# Altium footprint library BMS.PcbLib: 17 footprints (part 1 of 2)
Each footprint in its own frame and in the unit in brackets; x right, y up, seen from the top. Pads: shape width x height; smd on the part's side, far side on the other; paste and mask are expansions set on the pad; w line width, h text height; cw(c..) or ccw(c..) is an arc to the next point about the centre after c.
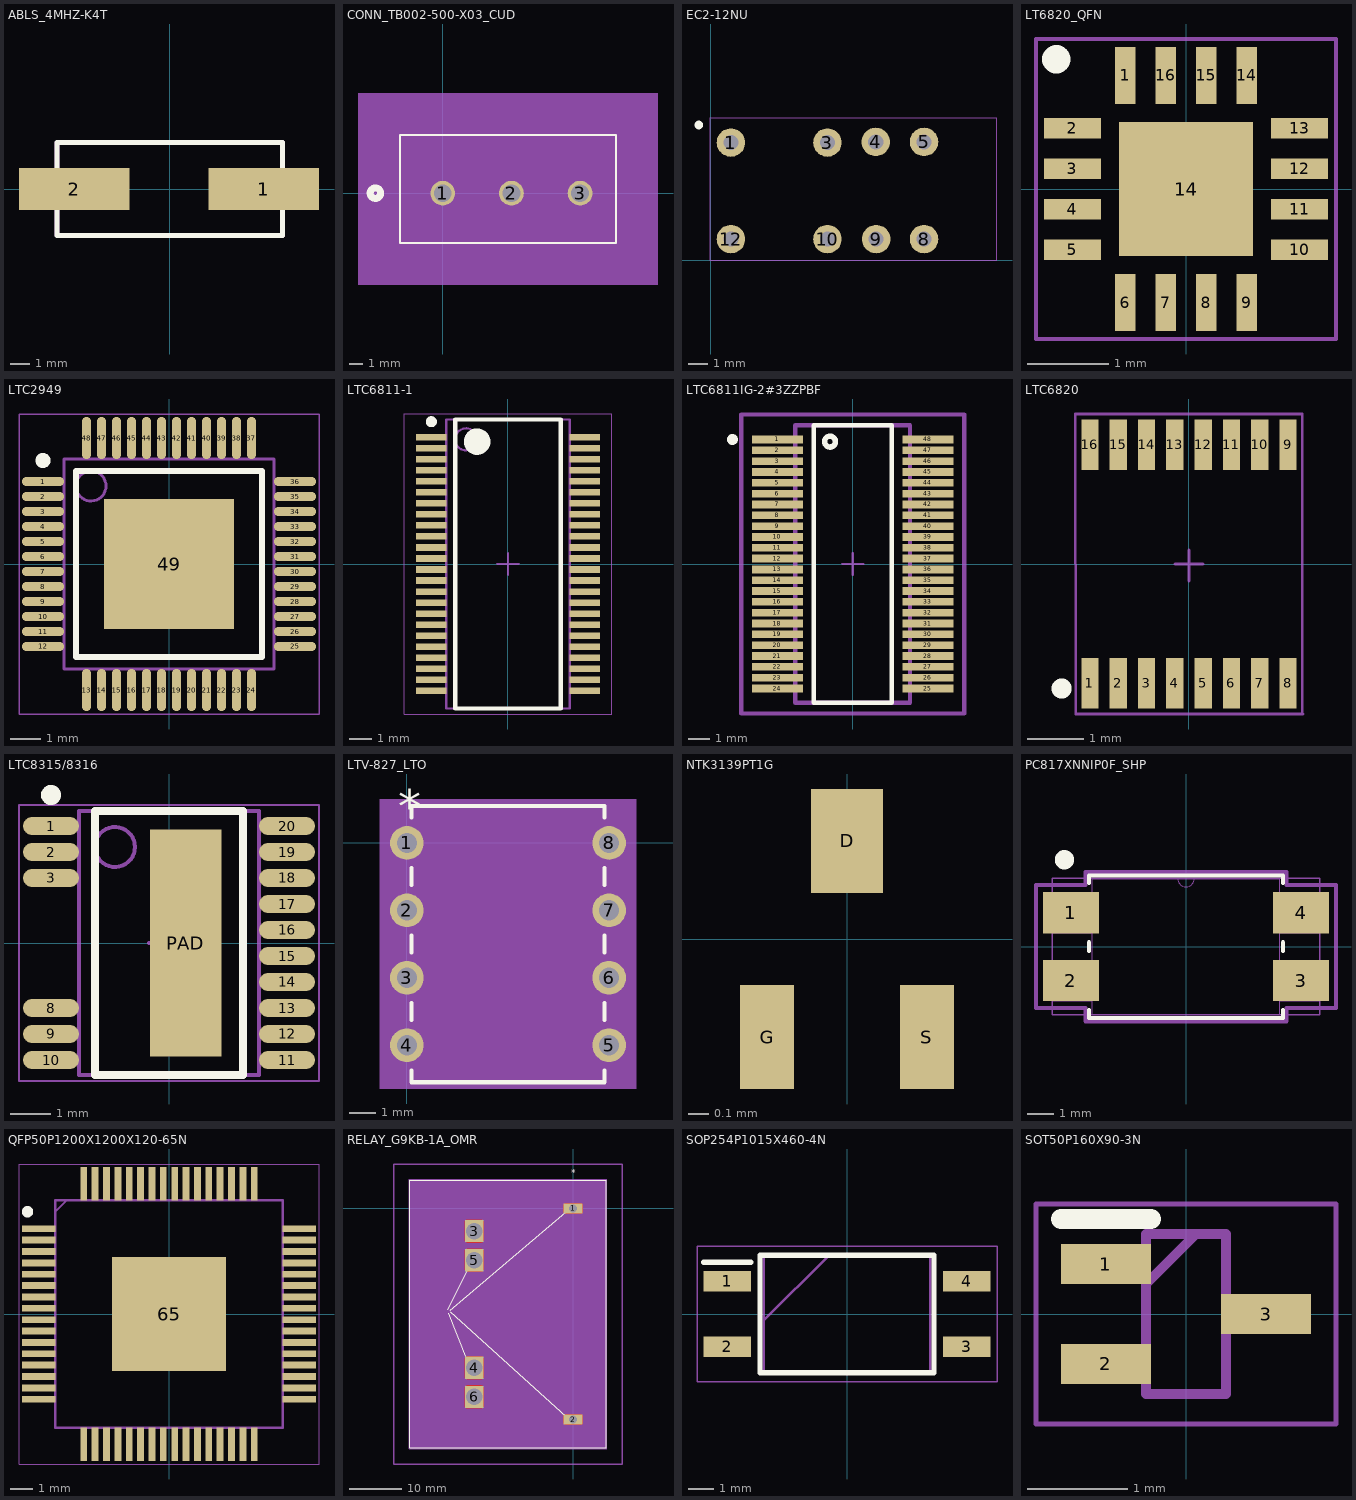
[diagram p0: the footprints below, top view; thin cyan lines are the x and y axes]

## ABLS_4MHZ-K4T [mm]
pads (2):
  rect 5.6x2.1 smd: 1(4.75,0) 2(-4.826,0)
Top Overlay:
  lines w0.254: -5.7,-2.35 5.7,-2.35 5.7,2.35 -5.7,2.35 -5.7,-2.35
Mechanical 1:
  lines w0.254: -5.7,-2.35 5.7,-2.35 5.7,2.35 -5.7,2.35 -5.7,-2.35

## CONN_TB002-500-X03_CUD [mil] "3 PIN TERMINAL BLOCK SLOTTED"
pads (3):
  round 71 hole 51 mask+0: 1(0,0) 2(196.85,0) 3(393.7,0)
Top Overlay:
  circle w20: c-192.99,0 r15
  lines w6: -122.99,-142.58 -122.99,166.42 497.01,166.42 497.01,-142.58 -122.99,-142.58
Bottom Overlay:
  circle w20: c-192.99,0 r15
Mechanical 5:
  region: -242.99,286.42 617.01,286.42 617.01,-262.58 -242.99,-262.58
Mechanical 13:
  circle w20: c0,75 r15
  lines w1: -117.99,-137.58 -117.99,161.42 492.01,161.42 492.01,-137.58 -117.99,-137.58
Mechanical 15:
  region: 502.01,171.42 -127.99,171.42 -127.99,-147.58 502.01,-147.58
  lines w6: -127.99,-147.58 502.01,-147.58 502.01,171.42 -127.99,171.42 -127.99,-147.58
3D body: height 10, standoff 0, extent 0,0 10,10

## EC2-12NU [mm] "Precharge relay"
pads (8):
  round 1.5 hole 0.8: 1(1.05,6.19) 3(6.13,6.19) 4(8.67,6.223) 5(11.21,6.223) 8(11.21,1.11) 9(8.69,1.11) 10(6.13,1.11) 12(1.05,1.11)
Top Overlay:
  circle w0.254: c-0.635,7.112 r0.1
Mechanical 15:
  lines w0.05: -0.05,0 15.05,0 15.05,7.493 -0.05,7.493 -0.05,0
3D body "EC2-12NU.step": height 8.9, standoff -3.9, extent 0,0 15,7.5

## LT6820_QFN [mm] "QFN for 6820"
pads (17):
  rect 0.25x0.7 smd mask+0.07: 1(-0.75,1.4) 6(-0.75,-1.4) 7(-0.25,-1.4) 8(0.25,-1.4) 9(0.75,-1.4) 14(0.75,1.4) 15(0.25,1.4) 16(-0.25,1.4)
  rect 0.7x0.25 smd mask+0.07: 2(-1.4,0.75) 3(-1.4,0.25) 4(-1.4,-0.25) 5(-1.4,-0.75) 10(1.4,-0.75) 11(1.4,-0.25) 12(1.4,0.25) 13(1.4,0.75)
  rect 1.65x1.65 smd mask+0.07: 14(0,0)
Top Overlay:
  circle w0.25: c-1.6,1.6 r0.05
Mechanical 15:
  lines w0.05: -1.85,-1.85 1.85,-1.85 1.85,1.85 -0.9,1.85 -1.85,1.85 -1.85,-1.85
3D body "QFN-16_UD.step": height 0.8, standoff 0, extent -1.55,-1.55 1.55,1.55

## LTC2949 [mm] "LQFP, 48-Leads, IPC Medium Density"
height 1.6
pads (49):
  oval 1.4x0.3 smd mask+0.05: 1(-4.2,2.75) 2(-4.2,2.25) 3(-4.2,1.75) 4(-4.2,1.25) 5(-4.2,0.75) 6(-4.2,0.25) 7(-4.2,-0.25) 8(-4.2,-0.75) 9(-4.2,-1.25) 10(-4.2,-1.75) 11(-4.2,-2.25) 12(-4.2,-2.75) 25(4.2,-2.75) 26(4.2,-2.25) 27(4.2,-1.75) 28(4.2,-1.25) 29(4.2,-0.75) 30(4.2,-0.25) 31(4.2,0.25) 32(4.2,0.75) 33(4.2,1.25) 34(4.2,1.75) 35(4.2,2.25) 36(4.2,2.75)
  oval 0.3x1.4 smd mask+0.05: 13(-2.75,-4.2) 14(-2.25,-4.2) 15(-1.75,-4.2) 16(-1.25,-4.2) 17(-0.75,-4.2) 18(-0.25,-4.2) 19(0.25,-4.2) 20(0.75,-4.2) 21(1.25,-4.2) 22(1.75,-4.2) 23(2.25,-4.2) 24(2.75,-4.2) 37(2.75,4.2) 38(2.25,4.2) 39(1.75,4.2) 40(1.25,4.2) 41(0.75,4.2) 42(0.25,4.2) 43(-0.25,4.2) 44(-0.75,4.2) 45(-1.25,4.2) 46(-1.75,4.2) 47(-2.25,4.2) 48(-2.75,4.2)
  rect 4.35x4.35 smd: 49(0,0)
Top Overlay:
  circle w0.25: c-4.2,3.45 r0.125
  lines w0.2: -3.1,-3.1 3.1,-3.1 3.1,3.1 -3.1,3.1 -3.1,-3.1
Mechanical 13:
  circle w0.1: c-2.6,2.6 r0.5
  lines w0.1: -3.5,-3.5 3.5,-3.5 3.5,3.5 -3.5,3.5 -3.5,-3.5
Mechanical 15:
  lines w0.05: -5,-5 5,-5 5,5 -5,5 -5,-5
  lines w0.1: -0.5,0 0.5,0 ; 0,-0.5 0,0.5
3D body: height 1.6, standoff 0.1, extent -3.5,-3.5 3.5,3.5

## LTC6811-1 [mm]
height 2
pads (48):
  rect 1.37x0.3 smd: 1(-3.475,5.75) 2(-3.475,5.25) 3(-3.475,4.75) 4(-3.475,4.25) 5(-3.475,3.75) 6(-3.475,3.25) 7(-3.475,2.75) 8(-3.475,2.25) 9(-3.475,1.75) 10(-3.475,1.25) 11(-3.475,0.75) 12(-3.475,0.25) 13(-3.475,-0.25) 14(-3.475,-0.75) 15(-3.475,-1.25) 16(-3.475,-1.75) 17(-3.475,-2.25) 18(-3.475,-2.75) 19(-3.475,-3.25) 20(-3.475,-3.75) 21(-3.475,-4.25) 22(-3.475,-4.75) 23(-3.475,-5.25) 24(-3.475,-5.75) 25(3.475,-5.75) 26(3.475,-5.25) 27(3.475,-4.75) 28(3.475,-4.25) 29(3.475,-3.75) 30(3.475,-3.25) 31(3.475,-2.75) 32(3.475,-2.25) 33(3.475,-1.75) 34(3.475,-1.25) 35(3.475,-0.75) 36(3.475,-0.25) 37(3.475,0.25) 38(3.475,0.75) 39(3.475,1.25) 40(3.475,1.75) 41(3.475,2.25) 42(3.475,2.75) 43(3.475,3.25) 44(3.475,3.75) 45(3.475,4.25) 46(3.475,4.75) 47(3.475,5.25) 48(3.475,5.75)
Top Overlay:
  circle w0.25: c-3.475,6.45 r0.125
  circle w0.6: c-1.4,5.55 r0.3
  lines w0.2: -2.4,-6.55 -2.4,6.55 2.4,6.55 2.4,-6.55 -2.4,-6.55
Mechanical 13:
  circle w0.1: c-1.9,5.65 r0.5
  lines w0.1: -2.8,-6.55 -2.8,6.55 2.8,6.55 2.8,-6.55 -2.8,-6.55
Mechanical 15:
  lines w0.05: -4.7,-6.8 -4.7,6.8 4.7,6.8 4.7,-6.8 -4.7,-6.8
  lines w0.1: -0.5,0 0.5,0 ; 0,-0.5 0,0.5
3D body "LTC6811-1-48N.step": height 2, standoff 0, extent -3.9,-6.55 3.9,6.55

## LTC6811IG-2#3ZZPBF [mm] "Battery Management Multicell Battery Stack Monitor with Addressable isoSPI Interface with 3ZZ"
pads (48):
  rect 2.353x0.355 smd paste+0: 1(-3.475,5.75) 2(-3.475,5.25) 3(-3.475,4.75) 4(-3.475,4.25) 5(-3.475,3.75) 6(-3.475,3.25) 7(-3.475,2.75) 8(-3.475,2.25) 9(-3.475,1.75) 10(-3.475,1.25) 11(-3.475,0.75) 12(-3.475,0.25) 13(-3.475,-0.25) 14(-3.475,-0.75) 15(-3.475,-1.25) 16(-3.475,-1.75) 17(-3.475,-2.25) 18(-3.475,-2.75) 19(-3.475,-3.25) 20(-3.475,-3.75) 21(-3.475,-4.25) 22(-3.475,-4.75) 23(-3.475,-5.25) 24(-3.475,-5.75) 25(3.475,-5.75) 26(3.475,-5.25) 27(3.475,-4.75) 28(3.475,-4.25) 29(3.475,-3.75) 30(3.475,-3.25) 31(3.475,-2.75) 32(3.475,-2.25) 33(3.475,-1.75) 34(3.475,-1.25) 35(3.475,-0.75) 36(3.475,-0.25) 37(3.475,0.25) 38(3.475,0.75) 39(3.475,1.25) 40(3.475,1.75) 41(3.475,2.25) 42(3.475,2.75) 43(3.475,3.25) 44(3.475,3.75) 45(3.475,4.25) 46(3.475,4.75) 47(3.475,5.25) 48(3.475,5.75)
Top Overlay:
  circle w0.25: c-5.552,5.75 r0.125
  circle w0.25: c-1.049,5.65 r0.25
  lines w0.2: -1.799,-6.4 -1.799,6.4 1.799,6.4 1.799,-6.4 -1.799,-6.4
Mechanical 5:
  lines w0.2: -5.152,-6.9 -5.152,6.9 5.152,6.9 5.152,-6.9 -5.152,-6.9
Mechanical 13:
  lines w0.2: -2.65,-6.4 -2.65,6.4 2.65,6.4 2.65,-6.4 -2.65,-6.4
Mechanical 15:
  lines w0.2: -5.152,-6.9 -5.152,6.9 5.152,6.9 5.152,-6.9 -5.152,-6.9
Mechanical 16:
  lines w0.1: -0.5,0 0.5,0 ; 0,-0.5 0,0.5
3D body "IC_Analog_Devices_LTC6811HG-1#PBF_eec.STEP": height 1.85, standoff 0, extent -3.9,-6.4 3.9,6.4

## LTC6820 [mm] "TSSOP for 6820"
pads (16):
  rect 0.305x0.889 smd: 1(-1.75,-2.106) 2(-1.25,-2.106) 3(-0.75,-2.106) 4(-0.25,-2.106) 5(0.25,-2.106) 6(0.75,-2.106) 7(1.25,-2.106) 8(1.75,-2.106) 9(1.75,2.106) 10(1.25,2.106) 11(0.75,2.106) 12(0.25,2.106) 13(-0.25,2.106) 14(-0.75,2.106) 15(-1.25,2.106) 16(-1.75,2.106)
Top Overlay:
  circle w0.254: c-2.25,-2.2 r0.05
Mechanical 15:
  lines w0.05: -0.25,0 0.25,0 ; 0,-0.3 0,0.25 ; 2,-2.65 2,2.65 -2.01,2.65 -2,-2.65 2.012,-2.65
3D body "MSOP-16_3x4mm_P0.5mm.step": height 0.95, standoff 0, extent -2,-2.45 2,2.45

## LTC8315/8316 [mm] "TSOP, 20-Leads, Body 6.50x4.40mm, Pitch 0.65mm, Thermal Pad 5.68x1.78mm, IPC Medium Density"
height 1.2
pads (17):
  oval 1.4x0.45 smd: 1(-2.95,2.925) 2(-2.95,2.275) 3(-2.95,1.625) 8(-2.95,-1.625) 9(-2.95,-2.275) 10(-2.95,-2.925) 11(2.95,-2.925) 12(2.95,-2.275) 13(2.95,-1.625) 14(2.95,-0.975) 15(2.95,-0.325) 16(2.95,0.325) 17(2.95,0.975) 18(2.95,1.625) 19(2.95,2.275) 20(2.95,2.925)
  rect 1.78x5.68 smd: PAD(0.42,0)
Top Overlay:
  circle w0.25: c-2.95,3.7 r0.125
  lines w0.2: -1.85,-3.3 -1.85,3.3 1.85,3.3 1.85,-3.3 -1.85,-3.3
Mechanical 13:
  circle w0.1: c-1.35,2.4 r0.5
  lines w0.1: -2.25,-3.3 -2.25,3.3 2.25,3.3 2.25,-3.3 -2.25,-3.3
Mechanical 15:
  lines w0.05: -3.75,-3.45 -3.75,3.45 3.75,3.45 3.75,-3.45 -3.75,-3.45
  lines w0.1: -0.5,0 0.5,0 ; 0,-0.5 0,0.5
3D body: height 1.2, standoff 0.05, extent -2.25,-3.3 2.25,3.3

## LTV-827_LTO [mil]
pads (8):
  round 50 hole 30 mask+0: 1(0,0) 2(0,-100) 3(0,-200) 4(0,-300) 5(300,-300) 6(300,-200) 7(300,-100) 8(300,0)
Top Overlay:
  lines w6: 7,-337.45 7,-355 293,-355 293,-337.45 ; 7,-262.55 7,-237.45 ; 7,-162.55 7,-137.45 ; 7,-62.55 7,-37.45 ; 7,37.45 7,55 293,55 293,37.45 ; 293,-262.55 293,-237.45 ; 293,-162.55 293,-137.45 ; 293,-62.55 293,-37.45
  text "*" at -12.5,30 h50
Mechanical 5:
  region: 340,-365 -40,-365 -40,65 340,65
Mechanical 13:
  lines w0: 138,50 ccw(c150,50) 162,50
  lines w1: -15,-315 -15,-285 12,-285 12,-315 -15,-315 ; -15,-215 -15,-185 12,-185 12,-215 -15,-215 ; -15,-115 -15,-85 12,-85 12,-115 -15,-115 ; -15,-15 -15,15 12,15 12,-15 -15,-15 ; 12,-350 288,-350 288,50 12,50 12,-350 ; 288,-315 288,-285 315,-285 315,-315 288,-315 ; 288,-215 288,-185 315,-185 315,-215 288,-215 ; 288,-115 288,-85 315,-85 315,-115 288,-115 ; 288,-15 288,15 315,15 315,-15 288,-15
  text "*" at 9.5,-25 h50
Mechanical 15:
  region: 298,-335 335,-335 335,35 298,35 298,60 2,60 2,35 -35,35 -35,-335 2,-335 2,-360 298,-360
  lines w6: -35,-335 -35,35 2,35 2,60 298,60 298,35 335,35 335,-335 298,-335 298,-360 2,-360 2,-335 -35,-335
3D body "LTV-827_LTO.step": height 162.09, standoff -100, extent -5,-350 315,50

## NTK3139PT1G [mm]
pads (3):
  rect 0.36x0.52 smd mask+0.07: D(0,0.49)
  rect 0.27x0.52 smd mask+0.07: G(-0.4,-0.49) S(0.4,-0.49)
3D body "User Library-SOT-723.STEP": height 0.45, standoff -0.01, extent -0.615,-0.525 0.635,0.525

## PC817XNNIP0F_SHP [mil]
pads (4):
  rect 83x61 smd paste+0 mask+0: 1(-169.5,50) 2(-169.5,-50) 3(169.5,-50) 4(169.5,50)
Top Overlay:
  circle w19.68: c-179.13,127.95 r4.4
  lines w6: -143,-93.6 -143,-105 143,-105 143,-93.6 ; -143,-6.4 -143,6.4 ; -143,93.6 -143,105 143,105 143,93.6 ; 143,-6.4 143,6.4
Mechanical 13:
  lines w0: -12,100 ccw(c0,100) 12,100
  lines w1: -197,-79.5 -197,-20.5 -138,-20.5 -138,-79.5 -197,-79.5 ; -197,20.5 -197,79.5 -138,79.5 -138,20.5 -197,20.5 ; -138,-100 138,-100 138,100 -138,100 -138,-100 ; 138,-79.5 138,-20.5 197,-20.5 197,-79.5 138,-79.5 ; 138,20.5 138,79.5 197,79.5 197,20.5 138,20.5
  lines w2.36: -196.85,-100.39 -196.85,100.39 196.85,100.39 196.85,-100.39 -196.85,-100.39
Mechanical 15:
  lines w6: -221,-90.5 -221,90.5 -148,90.5 -148,110 148,110 148,90.5 221,90.5 221,-90.5 148,-90.5 148,-110 -148,-110 -148,-90.5 -221,-90.5
3D body "PC817XNNIP0F_SHP.step": height 157.09, standoff 0, extent -197.01,-100 197.01,100

## QFP50P1200X1200X120-65N [mm]
pads (65):
  rect 1.475x0.3 smd: 1(-5.738,3.75) 2(-5.738,3.25) 3(-5.738,2.75) 4(-5.738,2.25) 5(-5.738,1.75) 6(-5.738,1.25) 7(-5.738,0.75) 8(-5.738,0.25) 9(-5.738,-0.25) 10(-5.738,-0.75) 11(-5.738,-1.25) 12(-5.738,-1.75) 13(-5.738,-2.25) 14(-5.738,-2.75) 15(-5.738,-3.25) 16(-5.738,-3.75) 33(5.738,-3.75) 34(5.738,-3.25) 35(5.738,-2.75) 36(5.738,-2.25) 37(5.738,-1.75) 38(5.738,-1.25) 39(5.738,-0.75) 40(5.738,-0.25) 41(5.738,0.25) 42(5.738,0.75) 43(5.738,1.25) 44(5.738,1.75) 45(5.738,2.25) 46(5.738,2.75) 47(5.738,3.25) 48(5.738,3.75)
  rect 0.3x1.475 smd: 17(-3.75,-5.738) 18(-3.25,-5.738) 19(-2.75,-5.738) 20(-2.25,-5.738) 21(-1.75,-5.738) 22(-1.25,-5.738) 23(-0.75,-5.738) 24(-0.25,-5.738) 25(0.25,-5.738) 26(0.75,-5.738) 27(1.25,-5.738) 28(1.75,-5.738) 29(2.25,-5.738) 30(2.75,-5.738) 31(3.25,-5.738) 32(3.75,-5.738) 49(3.75,5.738) 50(3.25,5.738) 51(2.75,5.738) 52(2.25,5.738) 53(1.75,5.738) 54(1.25,5.738) 55(0.75,5.738) 56(0.25,5.738) 57(-0.25,5.738) 58(-0.75,5.738) 59(-1.25,5.738) 60(-1.75,5.738) 61(-2.25,5.738) 62(-2.75,5.738) 63(-3.25,5.738) 64(-3.75,5.738)
  rect 5x5 smd: 65(0,0)
Top Overlay:
  circle w0.25: c-6.225,4.5 r0.125
Mechanical 13:
  lines w0.1: -5,4.5 -4.5,5 ; -5,-5 5,-5 5,5 -5,5 -5,-5
Mechanical 15:
  lines w0.05: -6.6,-6.6 6.6,-6.6 6.6,6.6 -6.6,6.6 -6.6,-6.6
3D body "BQ76PL536ATPAPTQ1.stp": height 1.2, standoff 0, extent -6,-6 6,6

## RELAY_G9KB-1A_OMR [mm]
pads (6):
  rect 3.6x1.9 / inner round 1.499 / far side round 1.499 hole 1.5 square unplated: 1(0,0)
  rect 3.6x1.9 / inner round 1.499 / far side round 1.499 hole 1.499 square unplated: 2(0,-40)
  rect 3.5x4.2 / inner round 3.099 / far side round 3.099 hole 3.099 square unplated: 3(-18.75,-4.3)
  rect 3.5x4.2 / inner round 3.099 / far side round 3.099 hole 3.1 square unplated: 4(-18.75,-30.2) 5(-18.75,-9.8) 6(-18.75,-35.7)
Top Layer:
  region: -1.452,-39.006 -1.354,-38.996 1.354,-38.996 1.452,-39.006 1.545,-39.034 1.632,-39.08 1.706,-39.155 1.77,-39.218 1.816,-39.305 1.844,-39.399 1.854,-39.496 1.854,-40.504 1.844,-40.602 1.816,-40.695 1.77,-40.782 1.708,-40.858 1.644,-40.921 1.568,-40.983 1.452,-40.994 1.354,-41.004 -1.354,-41.004 -1.452,-40.994 -1.545,-40.966 -1.632,-40.92 -1.708,-40.858 -1.771,-40.794 -1.816,-40.695 -1.844,-40.602 -1.854,-40.504 -1.854,-39.496 -1.844,-39.398 -1.816,-39.305 -1.77,-39.218 -1.708,-39.142 -1.632,-39.08 -1.545,-39.034
  region: -20.054,-28.046 -17.446,-28.046 -17.348,-28.056 -17.255,-28.084 -17.156,-28.129 -17.092,-28.192 -17.03,-28.268 -16.984,-28.355 -16.956,-28.448 -16.946,-28.546 -16.946,-31.854 -16.956,-31.952 -16.984,-32.045 -17.029,-32.144 -17.092,-32.208 -17.168,-32.27 -17.255,-32.316 -17.348,-32.344 -17.446,-32.354 -20.054,-32.354 -20.152,-32.344 -20.245,-32.316 -20.344,-32.271 -20.408,-32.208 -20.471,-32.144 -20.516,-32.045 -20.544,-31.952 -20.554,-31.854 -20.554,-28.546 -20.544,-28.448 -20.516,-28.355 -20.471,-28.256 -20.408,-28.192 -20.344,-28.129 -20.245,-28.084 -20.152,-28.056
  region: -20.054,-33.546 -17.446,-33.546 -17.348,-33.556 -17.255,-33.584 -17.156,-33.629 -17.092,-33.692 -17.03,-33.768 -16.984,-33.855 -16.956,-33.948 -16.946,-34.046 -16.946,-37.354 -16.956,-37.452 -16.984,-37.545 -17.029,-37.644 -17.092,-37.708 -17.168,-37.77 -17.255,-37.816 -17.348,-37.844 -17.446,-37.854 -20.054,-37.854 -20.152,-37.844 -20.245,-37.816 -20.344,-37.771 -20.408,-37.708 -20.471,-37.644 -20.516,-37.545 -20.544,-37.452 -20.554,-37.354 -20.554,-34.046 -20.544,-33.948 -20.516,-33.855 -20.471,-33.756 -20.408,-33.692 -20.344,-33.629 -20.245,-33.584 -20.152,-33.556
  region: -20.054,-2.146 -17.446,-2.146 -17.348,-2.156 -17.255,-2.184 -17.156,-2.229 -17.092,-2.292 -17.03,-2.368 -16.984,-2.455 -16.956,-2.548 -16.946,-2.646 -16.946,-5.954 -16.956,-6.052 -16.984,-6.145 -17.029,-6.244 -17.092,-6.308 -17.168,-6.37 -17.255,-6.416 -17.348,-6.444 -17.446,-6.454 -20.054,-6.454 -20.152,-6.444 -20.245,-6.416 -20.344,-6.371 -20.408,-6.308 -20.471,-6.244 -20.516,-6.145 -20.544,-6.052 -20.554,-5.954 -20.554,-2.646 -20.544,-2.548 -20.516,-2.455 -20.471,-2.356 -20.408,-2.292 -20.344,-2.229 -20.245,-2.184 -20.152,-2.156
  region: -20.054,-7.646 -17.446,-7.646 -17.348,-7.656 -17.255,-7.684 -17.156,-7.729 -17.092,-7.792 -17.03,-7.868 -16.984,-7.955 -16.956,-8.048 -16.946,-8.146 -16.946,-11.454 -16.956,-11.552 -16.984,-11.645 -17.029,-11.744 -17.092,-11.808 -17.168,-11.87 -17.255,-11.916 -17.348,-11.944 -17.446,-11.954 -20.054,-11.954 -20.152,-11.944 -20.245,-11.916 -20.344,-11.871 -20.408,-11.808 -20.471,-11.744 -20.516,-11.645 -20.544,-11.552 -20.554,-11.454 -20.554,-8.146 -20.544,-8.048 -20.516,-7.955 -20.471,-7.856 -20.408,-7.792 -20.344,-7.729 -20.245,-7.684 -20.152,-7.656
  region: -1.452,0.994 -1.354,1.004 1.354,1.004 1.452,0.994 1.545,0.966 1.632,0.92 1.706,0.845 1.77,0.782 1.816,0.695 1.844,0.601 1.854,0.504 1.854,-0.504 1.844,-0.602 1.816,-0.695 1.77,-0.782 1.708,-0.858 1.644,-0.921 1.568,-0.983 1.452,-0.994 1.354,-1.004 -1.354,-1.004 -1.452,-0.994 -1.545,-0.966 -1.632,-0.92 -1.708,-0.858 -1.771,-0.794 -1.816,-0.695 -1.844,-0.602 -1.854,-0.504 -1.854,0.504 -1.844,0.602 -1.816,0.695 -1.77,0.782 -1.708,0.858 -1.632,0.92 -1.545,0.966
Top Overlay:
  lines w0.152: -23.755,-19.162 -19.97,-11.694 ; -23.678,-19.848 -20.224,-28.484 ; -23.323,-19.314 -1.403,-0.696 ; -23.297,-19.543 -1.377,-39.355 ; -30.977,-45.377 -30.977,5.377 6.277,5.377 6.277,-7.312 6.277,-32.689 6.277,-45.377 -30.977,-45.377
  text "*" at -0.394,6.223 h1.27
Top Solder:
  drawing of 6 lines, arcs and shapes, not listed
Mechanical 5:
  lines w0.254: -34.025,-48.425 9.325,-48.425 9.325,8.425 -34.025,8.425 -34.025,-48.425
Mechanical 13:
  lines w0: -12.655,5.25 ccw(c-12.35,5.25) -12.045,5.25
  lines w0.025: -30.85,-45.25 6.15,-45.25 6.15,5.25 -30.85,5.25 -30.85,-45.25
  text "*" at -3.772,-0.635 h1.27
Mechanical 15:
  region: -31.104,5.504 -31.104,-45.504 6.404,-45.504 6.404,5.504
  lines w0.152: -31.104,-45.504 -31.104,5.504 6.404,5.504 6.404,-45.504 -31.104,-45.504
Multi-Layer:
  drawing of 216 lines, arcs and shapes, not listed
3D body: height 0.25, standoff 0, extent 0,0 0.254,0.254
3D body "G9KB_1A.step": height 50.5, standoff -4, extent -30.777,-45.166 6.223,5.334

## SOP254P1015X460-4N [mm] "Optoisolator Transistor Output 5000Vrms 1 Channel 4-DIP-S"
pads (4):
  rect 1.85x0.8 smd: 1(-4.675,1.27) 2(-4.675,-1.27) 3(4.675,-1.27) 4(4.675,1.27)
Top Overlay:
  lines w0.2: -5.6,2.02 -3.75,2.02 ; -3.4,-2.29 3.4,-2.29 3.4,2.29 -3.4,2.29 -3.4,-2.29
Mechanical 13:
  lines w0.1: -3.25,-0.25 -0.71,2.29 ; -3.25,-2.29 3.25,-2.29 3.25,2.29 -3.25,2.29 -3.25,-2.29
Mechanical 15:
  lines w0.05: -5.85,-2.64 5.85,-2.64 5.85,2.64 -5.85,2.64 -5.85,-2.64
3D body "140817142100.stp": height 4.6, standoff 0, extent -5.075,-2.29 5.075,2.29

## SOT50P160X90-3N [mm]
pads (3):
  rect 0.9x0.4 smd: 1(-0.8,0.5) 2(-0.8,-0.5) 3(0.8,0)
Top Overlay:
  lines w0.2: -1.25,0.95 -0.35,0.95
Mechanical 13:
  lines w0.1: -0.4,0.3 0.1,0.8 ; -0.4,-0.8 0.4,-0.8 0.4,0.8 -0.4,0.8 -0.4,-0.8
Mechanical 15:
  lines w0.05: -1.5,-1.1 1.5,-1.1 1.5,1.1 -1.5,1.1 -1.5,-1.1
3D body "DMN2004TK-7.stp": height 0.9, standoff 0, extent -0.8,-0.8 0.8,0.8